# Altium integrated library Linear Technology Power Management System Supervisor, Monitor and Control.IntLib: 1611 symbols (part 48 of 100)
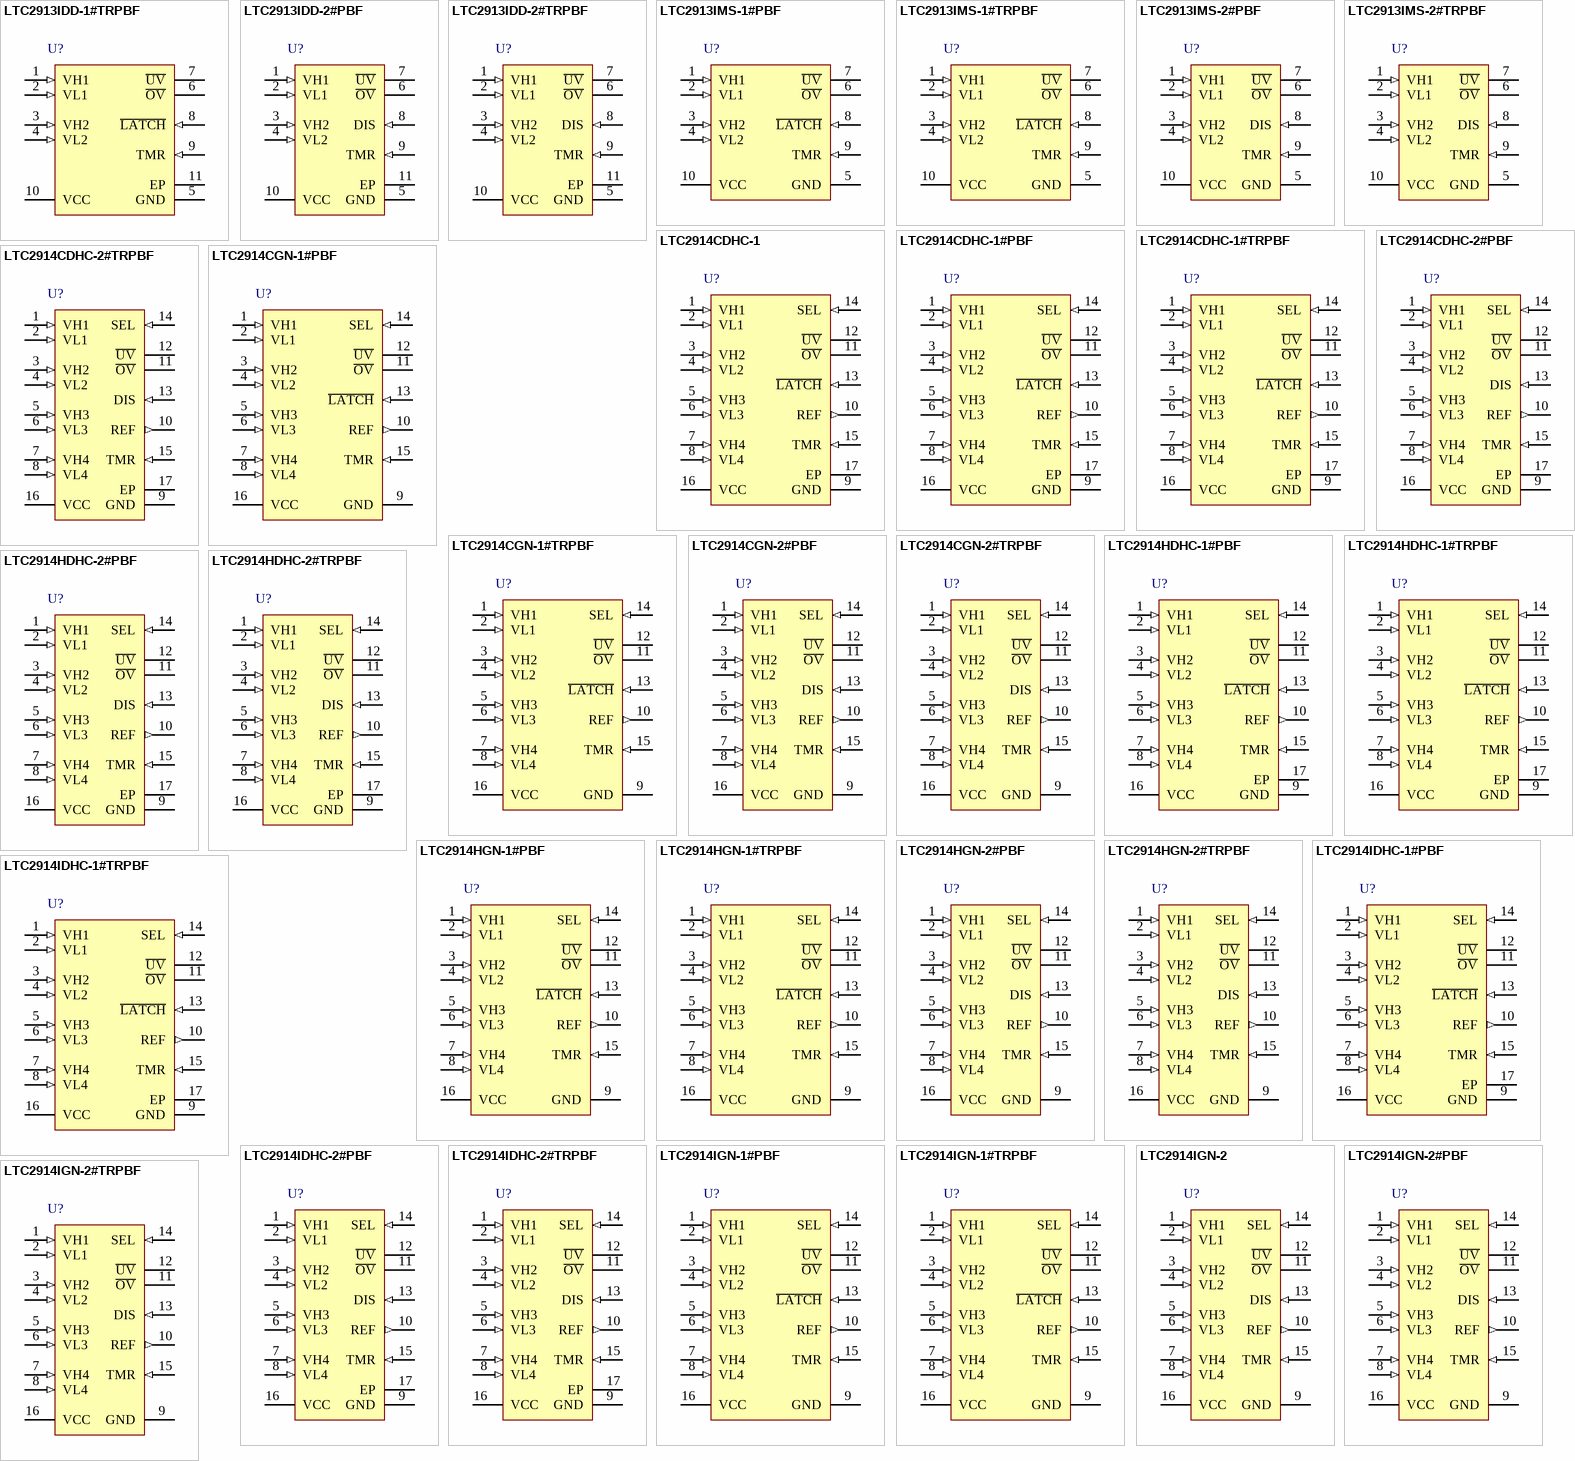
[diagram p92: symbols LTC2913IDD-1#TRPBF to LTC2914IGN-2#TRPBF]

## LTC2914IGN-2#TRPBF
designator U?
Quad UV/OV Positive / Negative Voltage Monitor, 16-pin SOP (GN-16), -40 to 85 degC, Pb-Free, Tape and Reel; Manufacturer: Linear Technology; PartNumber: LTC2914IGN-2#TRPBF; Number of Supplies(#): 4; DatasheetVersion: Rev. B; PackageVersion: Rev. B, 03/2012; PackageReference: GN-16; PackageDescription: 16-Pin Plastic SSOP, Body 4.9 x 3.9 mm, Pitch 0.635 mm; Supplier 1: Digi-Key; Supplier Part Number 1: LTC2914IGN-2#TRPBF-ND; Packing: Tape and Reel; RoHS: TRUE; Mounting Technology: Surface Mount; ComponentLink1Description: Manufacturer URL; ComponentLink1URL: http://www.linear.com/; ComponentLink2Description: Datasheet; ComponentLink2URL: http://cds.linear.com/docs/en/datasheet/2914fb.pdf; ComponentLink3Description: Package Specification; ComponentLink3URL: http://cds.linear.com/docs/en/packaging/05081641_B_GN16.pdf
footprint LT-GN-16_N (SOP, 16-Leads, Body 5x4mm, Pitch 0.635mm, IPC Medium Density)
footprint LT-GN-16_L (SOP, 16-Leads, Body 5x4mm, Pitch 0.635mm, IPC High Density)
footprint LT-GN-16_M (SOP, 16-Leads, Body 5x4mm, Pitch 0.635mm, IPC Low Density)
pins: 1 VH1 (in) "Voltage High Inputs 1 and 2. When the voltage on this pin is below 0.5V, an undervoltage condition is triggered. Tie pin to VCC if unused.", 2 VL1 (in) "Voltage Low Inputs 1 and 2. When the voltage on this pin is above 0.5V, an overvoltage condition is triggered. Tie pin to GND if unused.", 3 VH2 (in) "Voltage High Inputs 1 and 2. When the voltage on this pin is below 0.5V, an undervoltage condition is triggered. Tie pin to VCC if unused.", 4 VL2 (in) "Voltage Low Inputs 1 and 2. When the voltage on this pin is above 0.5V, an overvoltage condition is triggered. Tie pin to GND if unused.", 5 VH3 (in) "Voltage High Inputs 3 and 4. The polarity of the input is selected by the state of the SEL pin (refer to Table 1). When the monitored input is confi gured as a positive voltage, an undervoltage condition is triggered when (See Datasheet)", 6 VL3 (in) "Voltage Low Inputs 3 and 4. The polarity of the input is selected by the state of the SEL pin (refer to Table 1). When the monitored input is confi gured as a positive voltage, an overvoltage condition is triggered when the (See Datasheet)", 7 VH4 (in) "Voltage High Inputs 3 and 4. The polarity of the input is selected by the state of the SEL pin (refer to Table 1). When the monitored input is confi gured as a positive voltage, an undervoltage condition is triggered when (See Datasheet)", 8 VL4 (in) "Voltage Low Inputs 3 and 4. The polarity of the input is selected by the state of the SEL pin (refer to Table 1). When the monitored input is confi gured as a positive voltage, an overvoltage condition is triggered when the (See Datasheet)", 9 GND (power) "Device Ground", 10 REF (out) "Buffered Reference Output. 1V reference used for the offset of negative-monitoring applications. The buffered reference sources and sinks up to 1mA. The reference drives capacitive loads up to 1nF. Larger capacitive loads (See Datasheet)", 11 ~{OV} (oc) "Overvoltage Logic Output. Asserts low when any positive polarity input voltage is above threshold or any negative polarity input voltage is below threshold. Latched low (LTC2914-1). Held low for an adjustable delay time (See Datasheet)", 12 ~{UV} (oc) "Undervoltage Logic Output. Asserts low when any positive polarity input voltage is below threshold or any negative polarity input voltage is above threshold. Held low for an adjustable delay time after all voltage inputs are (See Datasheet)", 13 DIS (in) "Output Disable Input. Disables the O\V\ and U\V\ output pins. When DIS is pulled high, the O\V\ and U\V\ pins are not asserted except during a UVLO condition. Pin has a weak (2uA) internal pull-down to GND. Leave pin open if (See Datasheet)", 14 SEL (in) "Input Polarity Select Three-State Input. Connect to VCC, GND or leave unconnected in open state to select one of three possible input polarity combinations (refer to Table 1).", 15 TMR (in) "Reset Delay Timer. Attach an external capacitor (CTMR) of at least 10pF to GND to set a reset delay time of 9ms/nF. A 1nF capacitor will generate an 8.5ms reset delay time. Tie pin to VCC to bypass timer.", 16 VCC (power) "Supply Voltage. Bypass this pin to GND with a 0.1uF (or greater) capacitor. Operates as a direct supply input for voltages up to 6V. Operates as a shunt regulator for supply voltages greater than 6V and must have a (See Datasheet)"

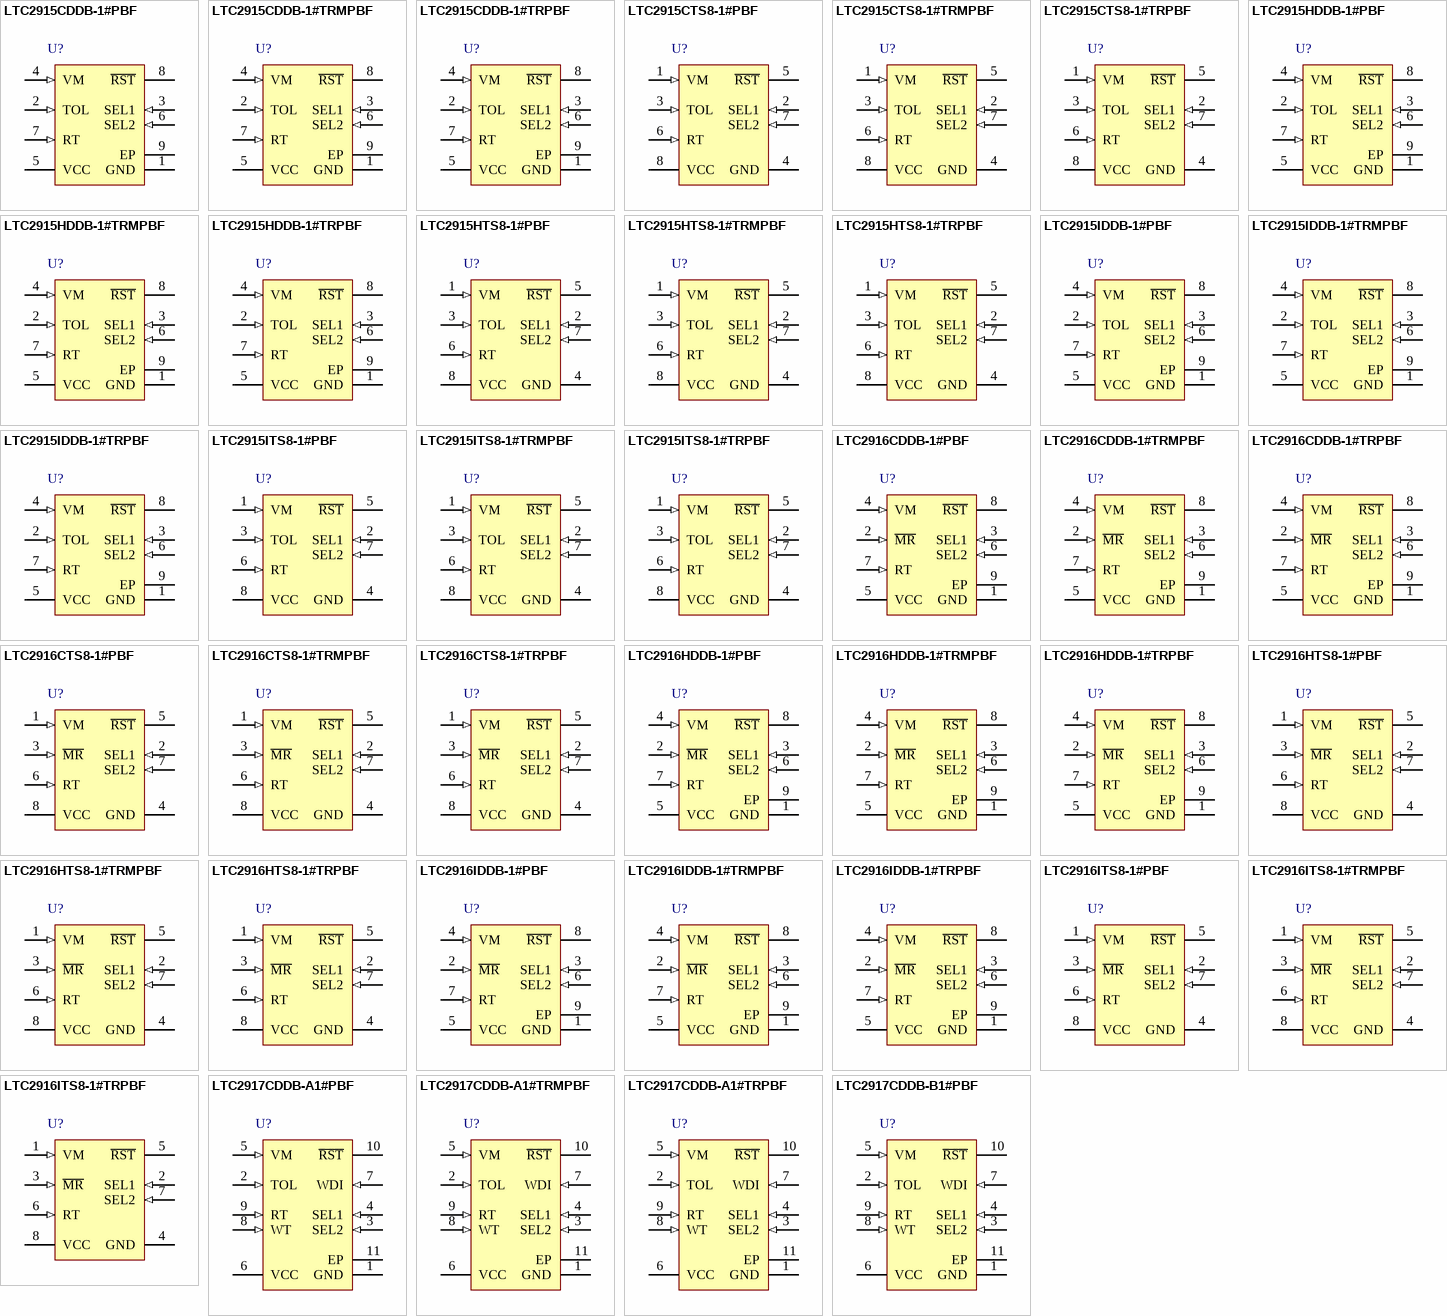
[diagram p23: symbols LTC2915CDDB-1#PBF to LTC2917CDDB-B1#PBF]

## LTC2915CDDB-1#PBF
designator U?
Low Voltage Supervisor with 27 Selectable Thresholds, 8-pin SON (DDB-8), 0 to 70 degC, Pb-Free; Manufacturer: Linear Technology; PartNumber: LTC2915CDDB-1#PBF; Number of Supplies(#): 1; DatasheetVersion: Rev. A; PackageVersion: Rev. B, 06/2010; PackageReference: DDB-8; PackageDescription: 8-Pin Plastic DFN, Body 3 x 2 mm, Pitch 0.5 mm; Supplier 1: Newark; Supplier Part Number 1: 78T3049; RoHS: TRUE; Mounting Technology: Surface Mount; Code_JEDEC: MO-229; ComponentLink1Description: Manufacturer URL; ComponentLink1URL: http://www.linear.com/; ComponentLink2Description: Datasheet; ComponentLink2URL: http://cds.linear.com/docs/en/datasheet/29156fa.pdf; ComponentLink3Description: Package Specification; ComponentLink3URL: http://cds.linear.com/docs/en/packaging/DFN_8_05-08-1702.pdf
footprint LT-DDB-8_V (SON, 8-Leads, Body 3x2mm, Pitch 0.5mm, Thermal Pad 2.2x0.61mm)
pins: 1 GND (power) "Device Ground.", 2 TOL (in) "Three-State Input for Supply Tolerance Selection (-5%, -10% or -15%). Controls the tolerance band at which the VM supply is monitored. Connect to VCC, GND, or leave unconnected in open state. (See Table 2).", 3 SEL1 (in) "Monitor Voltage Select Three-State Inputs. SEL1 and SEL2 control the nominal threshold voltage that VM is set to monitor. Connect to VCC, GND or leave unconnected in open state. (See Table 1).", 4 VM (in) "Voltage Monitor Input to R\S\T\ Comparator. SEL1, SEL2 and TOL inputs select the exact threshold that asserts the R\S\T\ output.", 5 VCC (power) "Power Supply Input. Bypass this pin to ground with a 0.1uF ceramic capacitor. A minimum of 1.5V on VCC ensures that the part is out of under voltage lockout and that the voltage thresholds are accurate. Operates as a direct (See Datasheet)", 6 SEL2 (in) "Monitor Voltage Select Three-State Inputs. SEL1 and SEL2 control the nominal threshold voltage that VM is set to monitor. Connect to VCC, GND or leave unconnected in open state. (See Table 1).", 7 RT (in) "Reset Timeout Control Pin. Attach an external Capacitor (CRT) to GND to set a reset timeout of 9ms/nF. Floating RT generates a reset timeout of approximately 400us. Tie RT to VCC to generate a reset timeout of approximately (See Datasheet)", 8 ~{RST} (oc) "Open Drain R\S\T\ Output. Asserts low when VM is below the threshold selected by SEL1, SEL2 and TOL input pins. Held low for an adjustable timeout after VM input is above threshold.", 9 EP (power) "Exposed Pad may be left open or connected to device ground."

## LTC2915CDDB-1#TRMPBF
designator U?
Low Voltage Supervisor with 27 Selectable Thresholds, 8-pin SON (DDB-8), 0 to 70 degC, Pb-Free, Mini Tape and Reel; Manufacturer: Linear Technology; PartNumber: LTC2915CDDB-1#TRMPBF; Number of Supplies(#): 1; DatasheetVersion: Rev. A; PackageVersion: Rev. B, 06/2010; PackageReference: DDB-8; PackageDescription: 8-Pin Plastic DFN, Body 3 x 2 mm, Pitch 0.5 mm; Supplier 1: Digi-Key; Supplier Part Number 1: LTC2915CDDB-1#TRMPBFTR-ND; Supplier 2: Digi-Key; Supplier Part Number 2: LTC2915CDDB-1#TRMPBFCT-ND; Supplier 3: Digi-Key; Supplier Part Number 3: LTC2915CDDB-1#TRMPBFDKR-ND; Supplier 4: Farnell; Supplier Part Number 4: 1715063; Supplier 5: Farnell; Supplier Part Number 5: 1715063RL; Supplier 6: Newark; Supplier Part Number 6: 56M6945; Packing: Mini Tape and Reel; RoHS: TRUE; Mounting Technology: Surface Mount; Code_JEDEC: MO-229; ComponentLink1Description: Manufacturer URL; ComponentLink1URL: http://www.linear.com/; ComponentLink2Description: Datasheet; ComponentLink2URL: http://cds.linear.com/docs/en/datasheet/29156fa.pdf; ComponentLink3Description: Package Specification; ComponentLink3URL: http://cds.linear.com/docs/en/packaging/DFN_8_05-08-1702.pdf
footprint LT-DDB-8_V (SON, 8-Leads, Body 3x2mm, Pitch 0.5mm, Thermal Pad 2.2x0.61mm)
pins: 1 GND (power) "Device Ground.", 2 TOL (in) "Three-State Input for Supply Tolerance Selection (-5%, -10% or -15%). Controls the tolerance band at which the VM supply is monitored. Connect to VCC, GND, or leave unconnected in open state. (See Table 2).", 3 SEL1 (in) "Monitor Voltage Select Three-State Inputs. SEL1 and SEL2 control the nominal threshold voltage that VM is set to monitor. Connect to VCC, GND or leave unconnected in open state. (See Table 1).", 4 VM (in) "Voltage Monitor Input to R\S\T\ Comparator. SEL1, SEL2 and TOL inputs select the exact threshold that asserts the R\S\T\ output.", 5 VCC (power) "Power Supply Input. Bypass this pin to ground with a 0.1uF ceramic capacitor. A minimum of 1.5V on VCC ensures that the part is out of under voltage lockout and that the voltage thresholds are accurate. Operates as a direct (See Datasheet)", 6 SEL2 (in) "Monitor Voltage Select Three-State Inputs. SEL1 and SEL2 control the nominal threshold voltage that VM is set to monitor. Connect to VCC, GND or leave unconnected in open state. (See Table 1).", 7 RT (in) "Reset Timeout Control Pin. Attach an external Capacitor (CRT) to GND to set a reset timeout of 9ms/nF. Floating RT generates a reset timeout of approximately 400us. Tie RT to VCC to generate a reset timeout of approximately (See Datasheet)", 8 ~{RST} (oc) "Open Drain R\S\T\ Output. Asserts low when VM is below the threshold selected by SEL1, SEL2 and TOL input pins. Held low for an adjustable timeout after VM input is above threshold.", 9 EP (power) "Exposed Pad may be left open or connected to device ground."

## LTC2915CDDB-1#TRPBF
designator U?
Low Voltage Supervisor with 27 Selectable Thresholds, 8-pin SON (DDB-8), 0 to 70 degC, Pb-Free, Tape and Reel; Manufacturer: Linear Technology; PartNumber: LTC2915CDDB-1#TRPBF; Number of Supplies(#): 1; DatasheetVersion: Rev. A; PackageVersion: Rev. B, 06/2010; PackageReference: DDB-8; PackageDescription: 8-Pin Plastic DFN, Body 3 x 2 mm, Pitch 0.5 mm; Supplier 1: Digi-Key; Supplier Part Number 1: LTC2915CDDB-1#TRPBF-ND; Supplier 2: Newark; Supplier Part Number 2: 56M6946; Packing: Tape and Reel; RoHS: TRUE; Mounting Technology: Surface Mount; Code_JEDEC: MO-229; ComponentLink1Description: Manufacturer URL; ComponentLink1URL: http://www.linear.com/; ComponentLink2Description: Datasheet; ComponentLink2URL: http://cds.linear.com/docs/en/datasheet/29156fa.pdf; ComponentLink3Description: Package Specification; ComponentLink3URL: http://cds.linear.com/docs/en/packaging/DFN_8_05-08-1702.pdf
footprint LT-DDB-8_V (SON, 8-Leads, Body 3x2mm, Pitch 0.5mm, Thermal Pad 2.2x0.61mm)
pins: 1 GND (power) "Device Ground.", 2 TOL (in) "Three-State Input for Supply Tolerance Selection (-5%, -10% or -15%). Controls the tolerance band at which the VM supply is monitored. Connect to VCC, GND, or leave unconnected in open state. (See Table 2).", 3 SEL1 (in) "Monitor Voltage Select Three-State Inputs. SEL1 and SEL2 control the nominal threshold voltage that VM is set to monitor. Connect to VCC, GND or leave unconnected in open state. (See Table 1).", 4 VM (in) "Voltage Monitor Input to R\S\T\ Comparator. SEL1, SEL2 and TOL inputs select the exact threshold that asserts the R\S\T\ output.", 5 VCC (power) "Power Supply Input. Bypass this pin to ground with a 0.1uF ceramic capacitor. A minimum of 1.5V on VCC ensures that the part is out of under voltage lockout and that the voltage thresholds are accurate. Operates as a direct (See Datasheet)", 6 SEL2 (in) "Monitor Voltage Select Three-State Inputs. SEL1 and SEL2 control the nominal threshold voltage that VM is set to monitor. Connect to VCC, GND or leave unconnected in open state. (See Table 1).", 7 RT (in) "Reset Timeout Control Pin. Attach an external Capacitor (CRT) to GND to set a reset timeout of 9ms/nF. Floating RT generates a reset timeout of approximately 400us. Tie RT to VCC to generate a reset timeout of approximately (See Datasheet)", 8 ~{RST} (oc) "Open Drain R\S\T\ Output. Asserts low when VM is below the threshold selected by SEL1, SEL2 and TOL input pins. Held low for an adjustable timeout after VM input is above threshold.", 9 EP (power) "Exposed Pad may be left open or connected to device ground."

## LTC2915CTS8-1#PBF
designator U?
Low Voltage Supervisor with 27 Selectable Thresholds, 8-pin SOT23 (TS8-8), 0 to 70 degC, Pb-Free; Manufacturer: Linear Technology; PartNumber: LTC2915CTS8-1#PBF; Number of Supplies(#): 1; DatasheetVersion: Rev. A; PackageVersion: Rev. A, 08/2010; PackageReference: TS8-8; PackageDescription: 8-Pin Plastic TSOT-23, Body 2.9 x 1.63 mm, Pitch 0.65 mm; Supplier 1: Farnell; Supplier Part Number 1: 2308118; Supplier 2: Newark; Supplier Part Number 2: 78T3050; RoHS: TRUE; Mounting Technology: Surface Mount; Code_JEDEC: MO-193; ComponentLink1Description: Manufacturer URL; ComponentLink1URL: http://www.linear.com/; ComponentLink2Description: Datasheet; ComponentLink2URL: http://cds.linear.com/docs/en/datasheet/29156fa.pdf; ComponentLink3Description: Package Specification; ComponentLink3URL: http://cds.linear.com/docs/en/packaging/SOT_8_05-08-1637.pdf
footprint LT-TS8-8-TSOT-23_V (SOT23, 8-Leads, Body 2.9x1.75mm, Pitch 0.65mm)
pins: 1 VM (in) "Voltage Monitor Input to R\S\T\ Comparator. SEL1, SEL2 and TOL inputs select the exact threshold that asserts the R\S\T\ output.", 2 SEL1 (in) "Monitor Voltage Select Three-State Inputs. SEL1 and SEL2 control the nominal threshold voltage that VM is set to monitor. Connect to VCC, GND or leave unconnected in open state. (See Table 1).", 3 TOL (in) "Three-State Input for Supply Tolerance Selection (-5%, -10% or -15%). Controls the tolerance band at which the VM supply is monitored. Connect to VCC, GND, or leave unconnected in open state. (See Table 2).", 4 GND (power) "Device Ground.", 5 ~{RST} (oc) "Open Drain R\S\T\ Output. Asserts low when VM is below the threshold selected by SEL1, SEL2 and TOL input pins. Held low for an adjustable timeout after VM input is above threshold.", 6 RT (in) "Reset Timeout Control Pin. Attach an external Capacitor (CRT) to GND to set a reset timeout of 9ms/nF. Floating RT generates a reset timeout of approximately 400us. Tie RT to VCC to generate a reset timeout of approximately (See Datasheet)", 7 SEL2 (in) "Monitor Voltage Select Three-State Inputs. SEL1 and SEL2 control the nominal threshold voltage that VM is set to monitor. Connect to VCC, GND or leave unconnected in open state. (See Table 1).", 8 VCC (power) "Power Supply Input. Bypass this pin to ground with a 0.1uF ceramic capacitor. A minimum of 1.5V on VCC ensures that the part is out of under voltage lockout and that the voltage thresholds are accurate. Operates as a direct (See Datasheet)"

## LTC2915CTS8-1#TRMPBF
designator U?
Low Voltage Supervisor with 27 Selectable Thresholds, 8-pin SOT23 (TS8-8), 0 to 70 degC, Pb-Free, Mini Tape and Reel; Manufacturer: Linear Technology; PartNumber: LTC2915CTS8-1#TRMPBF; Number of Supplies(#): 1; DatasheetVersion: Rev. A; PackageVersion: Rev. A, 08/2010; PackageReference: TS8-8; PackageDescription: 8-Pin Plastic TSOT-23, Body 2.9 x 1.63 mm, Pitch 0.65 mm; Supplier 1: Digi-Key; Supplier Part Number 1: LTC2915CTS8-1#TRMPBFTR-ND; Supplier 2: Digi-Key; Supplier Part Number 2: LTC2915CTS8-1#TRMPBFCT-ND; Supplier 3: Digi-Key; Supplier Part Number 3: LTC2915CTS8-1#TRMPBFDKR-ND; Supplier 4: Newark; Supplier Part Number 4: 56M6947; Packing: Mini Tape and Reel; RoHS: TRUE; Mounting Technology: Surface Mount; Code_JEDEC: MO-193; ComponentLink1Description: Manufacturer URL; ComponentLink1URL: http://www.linear.com/; ComponentLink2Description: Datasheet; ComponentLink2URL: http://cds.linear.com/docs/en/datasheet/29156fa.pdf; ComponentLink3Description: Package Specification; ComponentLink3URL: http://cds.linear.com/docs/en/packaging/SOT_8_05-08-1637.pdf
footprint LT-TS8-8-TSOT-23_V (SOT23, 8-Leads, Body 2.9x1.75mm, Pitch 0.65mm)
pins: 1 VM (in) "Voltage Monitor Input to R\S\T\ Comparator. SEL1, SEL2 and TOL inputs select the exact threshold that asserts the R\S\T\ output.", 2 SEL1 (in) "Monitor Voltage Select Three-State Inputs. SEL1 and SEL2 control the nominal threshold voltage that VM is set to monitor. Connect to VCC, GND or leave unconnected in open state. (See Table 1).", 3 TOL (in) "Three-State Input for Supply Tolerance Selection (-5%, -10% or -15%). Controls the tolerance band at which the VM supply is monitored. Connect to VCC, GND, or leave unconnected in open state. (See Table 2).", 4 GND (power) "Device Ground.", 5 ~{RST} (oc) "Open Drain R\S\T\ Output. Asserts low when VM is below the threshold selected by SEL1, SEL2 and TOL input pins. Held low for an adjustable timeout after VM input is above threshold.", 6 RT (in) "Reset Timeout Control Pin. Attach an external Capacitor (CRT) to GND to set a reset timeout of 9ms/nF. Floating RT generates a reset timeout of approximately 400us. Tie RT to VCC to generate a reset timeout of approximately (See Datasheet)", 7 SEL2 (in) "Monitor Voltage Select Three-State Inputs. SEL1 and SEL2 control the nominal threshold voltage that VM is set to monitor. Connect to VCC, GND or leave unconnected in open state. (See Table 1).", 8 VCC (power) "Power Supply Input. Bypass this pin to ground with a 0.1uF ceramic capacitor. A minimum of 1.5V on VCC ensures that the part is out of under voltage lockout and that the voltage thresholds are accurate. Operates as a direct (See Datasheet)"

## LTC2915CTS8-1#TRPBF
designator U?
Low Voltage Supervisor with 27 Selectable Thresholds, 8-pin SOT23 (TS8-8), 0 to 70 degC, Pb-Free, Tape and Reel; Manufacturer: Linear Technology; PartNumber: LTC2915CTS8-1#TRPBF; Number of Supplies(#): 1; DatasheetVersion: Rev. A; PackageVersion: Rev. A, 08/2010; PackageReference: TS8-8; PackageDescription: 8-Pin Plastic TSOT-23, Body 2.9 x 1.63 mm, Pitch 0.65 mm; Supplier 1: Digi-Key; Supplier Part Number 1: LTC2915CTS8-1#TRPBF-ND; Supplier 2: Newark; Supplier Part Number 2: 56M6948; Packing: Tape and Reel; RoHS: TRUE; Mounting Technology: Surface Mount; Code_JEDEC: MO-193; ComponentLink1Description: Manufacturer URL; ComponentLink1URL: http://www.linear.com/; ComponentLink2Description: Datasheet; ComponentLink2URL: http://cds.linear.com/docs/en/datasheet/29156fa.pdf; ComponentLink3Description: Package Specification; ComponentLink3URL: http://cds.linear.com/docs/en/packaging/SOT_8_05-08-1637.pdf
footprint LT-TS8-8-TSOT-23_V (SOT23, 8-Leads, Body 2.9x1.75mm, Pitch 0.65mm)
pins: 1 VM (in) "Voltage Monitor Input to R\S\T\ Comparator. SEL1, SEL2 and TOL inputs select the exact threshold that asserts the R\S\T\ output.", 2 SEL1 (in) "Monitor Voltage Select Three-State Inputs. SEL1 and SEL2 control the nominal threshold voltage that VM is set to monitor. Connect to VCC, GND or leave unconnected in open state. (See Table 1).", 3 TOL (in) "Three-State Input for Supply Tolerance Selection (-5%, -10% or -15%). Controls the tolerance band at which the VM supply is monitored. Connect to VCC, GND, or leave unconnected in open state. (See Table 2).", 4 GND (power) "Device Ground.", 5 ~{RST} (oc) "Open Drain R\S\T\ Output. Asserts low when VM is below the threshold selected by SEL1, SEL2 and TOL input pins. Held low for an adjustable timeout after VM input is above threshold.", 6 RT (in) "Reset Timeout Control Pin. Attach an external Capacitor (CRT) to GND to set a reset timeout of 9ms/nF. Floating RT generates a reset timeout of approximately 400us. Tie RT to VCC to generate a reset timeout of approximately (See Datasheet)", 7 SEL2 (in) "Monitor Voltage Select Three-State Inputs. SEL1 and SEL2 control the nominal threshold voltage that VM is set to monitor. Connect to VCC, GND or leave unconnected in open state. (See Table 1).", 8 VCC (power) "Power Supply Input. Bypass this pin to ground with a 0.1uF ceramic capacitor. A minimum of 1.5V on VCC ensures that the part is out of under voltage lockout and that the voltage thresholds are accurate. Operates as a direct (See Datasheet)"

## LTC2915HDDB-1#PBF
designator U?
Low Voltage Supervisor with 27 Selectable Thresholds, 8-pin SON (DDB-8), -40 to 125 degC, Pb-Free; Manufacturer: Linear Technology; PartNumber: LTC2915HDDB-1#PBF; Number of Supplies(#): 1; DatasheetVersion: Rev. A; PackageVersion: Rev. B, 06/2010; PackageReference: DDB-8; PackageDescription: 8-Pin Plastic DFN, Body 3 x 2 mm, Pitch 0.5 mm; Supplier 1: Newark; Supplier Part Number 1: 78T3051; RoHS: TRUE; Mounting Technology: Surface Mount; Code_JEDEC: MO-229; ComponentLink1Description: Manufacturer URL; ComponentLink1URL: http://www.linear.com/; ComponentLink2Description: Datasheet; ComponentLink2URL: http://cds.linear.com/docs/en/datasheet/29156fa.pdf; ComponentLink3Description: Package Specification; ComponentLink3URL: http://cds.linear.com/docs/en/packaging/DFN_8_05-08-1702.pdf
footprint LT-DDB-8_V (SON, 8-Leads, Body 3x2mm, Pitch 0.5mm, Thermal Pad 2.2x0.61mm)
pins: 1 GND (power) "Device Ground.", 2 TOL (in) "Three-State Input for Supply Tolerance Selection (-5%, -10% or -15%). Controls the tolerance band at which the VM supply is monitored. Connect to VCC, GND, or leave unconnected in open state. (See Table 2).", 3 SEL1 (in) "Monitor Voltage Select Three-State Inputs. SEL1 and SEL2 control the nominal threshold voltage that VM is set to monitor. Connect to VCC, GND or leave unconnected in open state. (See Table 1).", 4 VM (in) "Voltage Monitor Input to R\S\T\ Comparator. SEL1, SEL2 and TOL inputs select the exact threshold that asserts the R\S\T\ output.", 5 VCC (power) "Power Supply Input. Bypass this pin to ground with a 0.1uF ceramic capacitor. A minimum of 1.5V on VCC ensures that the part is out of under voltage lockout and that the voltage thresholds are accurate. Operates as a direct (See Datasheet)", 6 SEL2 (in) "Monitor Voltage Select Three-State Inputs. SEL1 and SEL2 control the nominal threshold voltage that VM is set to monitor. Connect to VCC, GND or leave unconnected in open state. (See Table 1).", 7 RT (in) "Reset Timeout Control Pin. Attach an external Capacitor (CRT) to GND to set a reset timeout of 9ms/nF. Floating RT generates a reset timeout of approximately 400us. Tie RT to VCC to generate a reset timeout of approximately (See Datasheet)", 8 ~{RST} (oc) "Open Drain R\S\T\ Output. Asserts low when VM is below the threshold selected by SEL1, SEL2 and TOL input pins. Held low for an adjustable timeout after VM input is above threshold.", 9 EP (power) "Exposed Pad may be left open or connected to device ground."

## LTC2915HDDB-1#TRMPBF
designator U?
Low Voltage Supervisor with 27 Selectable Thresholds, 8-pin SON (DDB-8), -40 to 125 degC, Pb-Free, Mini Tape and Reel; Manufacturer: Linear Technology; PartNumber: LTC2915HDDB-1#TRMPBF; Number of Supplies(#): 1; DatasheetVersion: Rev. A; PackageVersion: Rev. B, 06/2010; PackageReference: DDB-8; PackageDescription: 8-Pin Plastic DFN, Body 3 x 2 mm, Pitch 0.5 mm; Supplier 1: Digi-Key; Supplier Part Number 1: LTC2915HDDB-1#TRMPBFTR-ND; Supplier 2: Digi-Key; Supplier Part Number 2: LTC2915HDDB-1#TRMPBFCT-ND; Supplier 3: Digi-Key; Supplier Part Number 3: LTC2915HDDB-1#TRMPBFDKR-ND; Supplier 4: Farnell; Supplier Part Number 4: 1715064; Supplier 5: Newark; Supplier Part Number 5: 56M6949; Packing: Mini Tape and Reel; RoHS: TRUE; Mounting Technology: Surface Mount; Code_JEDEC: MO-229; ComponentLink1Description: Manufacturer URL; ComponentLink1URL: http://www.linear.com/; ComponentLink2Description: Datasheet; ComponentLink2URL: http://cds.linear.com/docs/en/datasheet/29156fa.pdf; ComponentLink3Description: Package Specification; ComponentLink3URL: http://cds.linear.com/docs/en/packaging/DFN_8_05-08-1702.pdf
footprint LT-DDB-8_V (SON, 8-Leads, Body 3x2mm, Pitch 0.5mm, Thermal Pad 2.2x0.61mm)
pins: 1 GND (power) "Device Ground.", 2 TOL (in) "Three-State Input for Supply Tolerance Selection (-5%, -10% or -15%). Controls the tolerance band at which the VM supply is monitored. Connect to VCC, GND, or leave unconnected in open state. (See Table 2).", 3 SEL1 (in) "Monitor Voltage Select Three-State Inputs. SEL1 and SEL2 control the nominal threshold voltage that VM is set to monitor. Connect to VCC, GND or leave unconnected in open state. (See Table 1).", 4 VM (in) "Voltage Monitor Input to R\S\T\ Comparator. SEL1, SEL2 and TOL inputs select the exact threshold that asserts the R\S\T\ output.", 5 VCC (power) "Power Supply Input. Bypass this pin to ground with a 0.1uF ceramic capacitor. A minimum of 1.5V on VCC ensures that the part is out of under voltage lockout and that the voltage thresholds are accurate. Operates as a direct (See Datasheet)", 6 SEL2 (in) "Monitor Voltage Select Three-State Inputs. SEL1 and SEL2 control the nominal threshold voltage that VM is set to monitor. Connect to VCC, GND or leave unconnected in open state. (See Table 1).", 7 RT (in) "Reset Timeout Control Pin. Attach an external Capacitor (CRT) to GND to set a reset timeout of 9ms/nF. Floating RT generates a reset timeout of approximately 400us. Tie RT to VCC to generate a reset timeout of approximately (See Datasheet)", 8 ~{RST} (oc) "Open Drain R\S\T\ Output. Asserts low when VM is below the threshold selected by SEL1, SEL2 and TOL input pins. Held low for an adjustable timeout after VM input is above threshold.", 9 EP (power) "Exposed Pad may be left open or connected to device ground."

## LTC2915HDDB-1#TRPBF
designator U?
Low Voltage Supervisor with 27 Selectable Thresholds, 8-pin SON (DDB-8), -40 to 125 degC, Pb-Free, Tape and Reel; Manufacturer: Linear Technology; PartNumber: LTC2915HDDB-1#TRPBF; Number of Supplies(#): 1; DatasheetVersion: Rev. A; PackageVersion: Rev. B, 06/2010; PackageReference: DDB-8; PackageDescription: 8-Pin Plastic DFN, Body 3 x 2 mm, Pitch 0.5 mm; Supplier 1: Digi-Key; Supplier Part Number 1: LTC2915HDDB-1#TRPBF-ND; Packing: Tape and Reel; RoHS: TRUE; Mounting Technology: Surface Mount; Code_JEDEC: MO-229; ComponentLink1Description: Manufacturer URL; ComponentLink1URL: http://www.linear.com/; ComponentLink2Description: Datasheet; ComponentLink2URL: http://cds.linear.com/docs/en/datasheet/29156fa.pdf; ComponentLink3Description: Package Specification; ComponentLink3URL: http://cds.linear.com/docs/en/packaging/DFN_8_05-08-1702.pdf
footprint LT-DDB-8_V (SON, 8-Leads, Body 3x2mm, Pitch 0.5mm, Thermal Pad 2.2x0.61mm)
pins: 1 GND (power) "Device Ground.", 2 TOL (in) "Three-State Input for Supply Tolerance Selection (-5%, -10% or -15%). Controls the tolerance band at which the VM supply is monitored. Connect to VCC, GND, or leave unconnected in open state. (See Table 2).", 3 SEL1 (in) "Monitor Voltage Select Three-State Inputs. SEL1 and SEL2 control the nominal threshold voltage that VM is set to monitor. Connect to VCC, GND or leave unconnected in open state. (See Table 1).", 4 VM (in) "Voltage Monitor Input to R\S\T\ Comparator. SEL1, SEL2 and TOL inputs select the exact threshold that asserts the R\S\T\ output.", 5 VCC (power) "Power Supply Input. Bypass this pin to ground with a 0.1uF ceramic capacitor. A minimum of 1.5V on VCC ensures that the part is out of under voltage lockout and that the voltage thresholds are accurate. Operates as a direct (See Datasheet)", 6 SEL2 (in) "Monitor Voltage Select Three-State Inputs. SEL1 and SEL2 control the nominal threshold voltage that VM is set to monitor. Connect to VCC, GND or leave unconnected in open state. (See Table 1).", 7 RT (in) "Reset Timeout Control Pin. Attach an external Capacitor (CRT) to GND to set a reset timeout of 9ms/nF. Floating RT generates a reset timeout of approximately 400us. Tie RT to VCC to generate a reset timeout of approximately (See Datasheet)", 8 ~{RST} (oc) "Open Drain R\S\T\ Output. Asserts low when VM is below the threshold selected by SEL1, SEL2 and TOL input pins. Held low for an adjustable timeout after VM input is above threshold.", 9 EP (power) "Exposed Pad may be left open or connected to device ground."

## LTC2915HTS8-1#PBF
designator U?
Low Voltage Supervisor with 27 Selectable Thresholds, 8-pin SOT23 (TS8-8), -40 to 125 degC, Pb-Free; Manufacturer: Linear Technology; PartNumber: LTC2915HTS8-1#PBF; Number of Supplies(#): 1; DatasheetVersion: Rev. A; PackageVersion: Rev. A, 08/2010; PackageReference: TS8-8; PackageDescription: 8-Pin Plastic TSOT-23, Body 2.9 x 1.63 mm, Pitch 0.65 mm; Supplier 1: Farnell; Supplier Part Number 1: 2308119; Supplier 2: Newark; Supplier Part Number 2: 78T3052; RoHS: TRUE; Mounting Technology: Surface Mount; Code_JEDEC: MO-193; ComponentLink1Description: Manufacturer URL; ComponentLink1URL: http://www.linear.com/; ComponentLink2Description: Datasheet; ComponentLink2URL: http://cds.linear.com/docs/en/datasheet/29156fa.pdf; ComponentLink3Description: Package Specification; ComponentLink3URL: http://cds.linear.com/docs/en/packaging/SOT_8_05-08-1637.pdf
footprint LT-TS8-8-TSOT-23_V (SOT23, 8-Leads, Body 2.9x1.75mm, Pitch 0.65mm)
pins: 1 VM (in) "Voltage Monitor Input to R\S\T\ Comparator. SEL1, SEL2 and TOL inputs select the exact threshold that asserts the R\S\T\ output.", 2 SEL1 (in) "Monitor Voltage Select Three-State Inputs. SEL1 and SEL2 control the nominal threshold voltage that VM is set to monitor. Connect to VCC, GND or leave unconnected in open state. (See Table 1).", 3 TOL (in) "Three-State Input for Supply Tolerance Selection (-5%, -10% or -15%). Controls the tolerance band at which the VM supply is monitored. Connect to VCC, GND, or leave unconnected in open state. (See Table 2).", 4 GND (power) "Device Ground.", 5 ~{RST} (oc) "Open Drain R\S\T\ Output. Asserts low when VM is below the threshold selected by SEL1, SEL2 and TOL input pins. Held low for an adjustable timeout after VM input is above threshold.", 6 RT (in) "Reset Timeout Control Pin. Attach an external Capacitor (CRT) to GND to set a reset timeout of 9ms/nF. Floating RT generates a reset timeout of approximately 400us. Tie RT to VCC to generate a reset timeout of approximately (See Datasheet)", 7 SEL2 (in) "Monitor Voltage Select Three-State Inputs. SEL1 and SEL2 control the nominal threshold voltage that VM is set to monitor. Connect to VCC, GND or leave unconnected in open state. (See Table 1).", 8 VCC (power) "Power Supply Input. Bypass this pin to ground with a 0.1uF ceramic capacitor. A minimum of 1.5V on VCC ensures that the part is out of under voltage lockout and that the voltage thresholds are accurate. Operates as a direct (See Datasheet)"

## LTC2915HTS8-1#TRMPBF
designator U?
Low Voltage Supervisor with 27 Selectable Thresholds, 8-pin SOT23 (TS8-8), -40 to 125 degC, Pb-Free, Mini Tape and Reel; Manufacturer: Linear Technology; PartNumber: LTC2915HTS8-1#TRMPBF; Number of Supplies(#): 1; DatasheetVersion: Rev. A; PackageVersion: Rev. A, 08/2010; PackageReference: TS8-8; PackageDescription: 8-Pin Plastic TSOT-23, Body 2.9 x 1.63 mm, Pitch 0.65 mm; Supplier 1: Digi-Key; Supplier Part Number 1: LTC2915HTS8-1#TRMPBFTR-ND; Supplier 2: Digi-Key; Supplier Part Number 2: LTC2915HTS8-1#TRMPBFCT-ND; Supplier 3: Digi-Key; Supplier Part Number 3: LTC2915HTS8-1#TRMPBFDKR-ND; Packing: Mini Tape and Reel; RoHS: TRUE; Mounting Technology: Surface Mount; Code_JEDEC: MO-193; ComponentLink1Description: Manufacturer URL; ComponentLink1URL: http://www.linear.com/; ComponentLink2Description: Datasheet; ComponentLink2URL: http://cds.linear.com/docs/en/datasheet/29156fa.pdf; ComponentLink3Description: Package Specification; ComponentLink3URL: http://cds.linear.com/docs/en/packaging/SOT_8_05-08-1637.pdf
footprint LT-TS8-8-TSOT-23_V (SOT23, 8-Leads, Body 2.9x1.75mm, Pitch 0.65mm)
pins: 1 VM (in) "Voltage Monitor Input to R\S\T\ Comparator. SEL1, SEL2 and TOL inputs select the exact threshold that asserts the R\S\T\ output.", 2 SEL1 (in) "Monitor Voltage Select Three-State Inputs. SEL1 and SEL2 control the nominal threshold voltage that VM is set to monitor. Connect to VCC, GND or leave unconnected in open state. (See Table 1).", 3 TOL (in) "Three-State Input for Supply Tolerance Selection (-5%, -10% or -15%). Controls the tolerance band at which the VM supply is monitored. Connect to VCC, GND, or leave unconnected in open state. (See Table 2).", 4 GND (power) "Device Ground.", 5 ~{RST} (oc) "Open Drain R\S\T\ Output. Asserts low when VM is below the threshold selected by SEL1, SEL2 and TOL input pins. Held low for an adjustable timeout after VM input is above threshold.", 6 RT (in) "Reset Timeout Control Pin. Attach an external Capacitor (CRT) to GND to set a reset timeout of 9ms/nF. Floating RT generates a reset timeout of approximately 400us. Tie RT to VCC to generate a reset timeout of approximately (See Datasheet)", 7 SEL2 (in) "Monitor Voltage Select Three-State Inputs. SEL1 and SEL2 control the nominal threshold voltage that VM is set to monitor. Connect to VCC, GND or leave unconnected in open state. (See Table 1).", 8 VCC (power) "Power Supply Input. Bypass this pin to ground with a 0.1uF ceramic capacitor. A minimum of 1.5V on VCC ensures that the part is out of under voltage lockout and that the voltage thresholds are accurate. Operates as a direct (See Datasheet)"

## LTC2915HTS8-1#TRPBF
designator U?
Low Voltage Supervisor with 27 Selectable Thresholds, 8-pin SOT23 (TS8-8), -40 to 125 degC, Pb-Free, Tape and Reel; Manufacturer: Linear Technology; PartNumber: LTC2915HTS8-1#TRPBF; Number of Supplies(#): 1; DatasheetVersion: Rev. A; PackageVersion: Rev. A, 08/2010; PackageReference: TS8-8; PackageDescription: 8-Pin Plastic TSOT-23, Body 2.9 x 1.63 mm, Pitch 0.65 mm; Supplier 1: Digi-Key; Supplier Part Number 1: LTC2915HTS8-1#TRPBF-ND; Packing: Tape and Reel; RoHS: TRUE; Mounting Technology: Surface Mount; Code_JEDEC: MO-193; ComponentLink1Description: Manufacturer URL; ComponentLink1URL: http://www.linear.com/; ComponentLink2Description: Datasheet; ComponentLink2URL: http://cds.linear.com/docs/en/datasheet/29156fa.pdf; ComponentLink3Description: Package Specification; ComponentLink3URL: http://cds.linear.com/docs/en/packaging/SOT_8_05-08-1637.pdf
footprint LT-TS8-8-TSOT-23_V (SOT23, 8-Leads, Body 2.9x1.75mm, Pitch 0.65mm)
pins: 1 VM (in) "Voltage Monitor Input to R\S\T\ Comparator. SEL1, SEL2 and TOL inputs select the exact threshold that asserts the R\S\T\ output.", 2 SEL1 (in) "Monitor Voltage Select Three-State Inputs. SEL1 and SEL2 control the nominal threshold voltage that VM is set to monitor. Connect to VCC, GND or leave unconnected in open state. (See Table 1).", 3 TOL (in) "Three-State Input for Supply Tolerance Selection (-5%, -10% or -15%). Controls the tolerance band at which the VM supply is monitored. Connect to VCC, GND, or leave unconnected in open state. (See Table 2).", 4 GND (power) "Device Ground.", 5 ~{RST} (oc) "Open Drain R\S\T\ Output. Asserts low when VM is below the threshold selected by SEL1, SEL2 and TOL input pins. Held low for an adjustable timeout after VM input is above threshold.", 6 RT (in) "Reset Timeout Control Pin. Attach an external Capacitor (CRT) to GND to set a reset timeout of 9ms/nF. Floating RT generates a reset timeout of approximately 400us. Tie RT to VCC to generate a reset timeout of approximately (See Datasheet)", 7 SEL2 (in) "Monitor Voltage Select Three-State Inputs. SEL1 and SEL2 control the nominal threshold voltage that VM is set to monitor. Connect to VCC, GND or leave unconnected in open state. (See Table 1).", 8 VCC (power) "Power Supply Input. Bypass this pin to ground with a 0.1uF ceramic capacitor. A minimum of 1.5V on VCC ensures that the part is out of under voltage lockout and that the voltage thresholds are accurate. Operates as a direct (See Datasheet)"

## LTC2915IDDB-1#PBF
designator U?
Low Voltage Supervisor with 27 Selectable Thresholds, 8-pin SON (DDB-8), -40 to 85 degC, Pb-Free; Manufacturer: Linear Technology; PartNumber: LTC2915IDDB-1#PBF; Number of Supplies(#): 1; DatasheetVersion: Rev. A; PackageVersion: Rev. B, 06/2010; PackageReference: DDB-8; PackageDescription: 8-Pin Plastic DFN, Body 3 x 2 mm, Pitch 0.5 mm; Supplier 1: Newark; Supplier Part Number 1: 78T3054; RoHS: TRUE; Mounting Technology: Surface Mount; Code_JEDEC: MO-229; ComponentLink1Description: Manufacturer URL; ComponentLink1URL: http://www.linear.com/; ComponentLink2Description: Datasheet; ComponentLink2URL: http://cds.linear.com/docs/en/datasheet/29156fa.pdf; ComponentLink3Description: Package Specification; ComponentLink3URL: http://cds.linear.com/docs/en/packaging/DFN_8_05-08-1702.pdf
footprint LT-DDB-8_V (SON, 8-Leads, Body 3x2mm, Pitch 0.5mm, Thermal Pad 2.2x0.61mm)
pins: 1 GND (power) "Device Ground.", 2 TOL (in) "Three-State Input for Supply Tolerance Selection (-5%, -10% or -15%). Controls the tolerance band at which the VM supply is monitored. Connect to VCC, GND, or leave unconnected in open state. (See Table 2).", 3 SEL1 (in) "Monitor Voltage Select Three-State Inputs. SEL1 and SEL2 control the nominal threshold voltage that VM is set to monitor. Connect to VCC, GND or leave unconnected in open state. (See Table 1).", 4 VM (in) "Voltage Monitor Input to R\S\T\ Comparator. SEL1, SEL2 and TOL inputs select the exact threshold that asserts the R\S\T\ output.", 5 VCC (power) "Power Supply Input. Bypass this pin to ground with a 0.1uF ceramic capacitor. A minimum of 1.5V on VCC ensures that the part is out of under voltage lockout and that the voltage thresholds are accurate. Operates as a direct (See Datasheet)", 6 SEL2 (in) "Monitor Voltage Select Three-State Inputs. SEL1 and SEL2 control the nominal threshold voltage that VM is set to monitor. Connect to VCC, GND or leave unconnected in open state. (See Table 1).", 7 RT (in) "Reset Timeout Control Pin. Attach an external Capacitor (CRT) to GND to set a reset timeout of 9ms/nF. Floating RT generates a reset timeout of approximately 400us. Tie RT to VCC to generate a reset timeout of approximately (See Datasheet)", 8 ~{RST} (oc) "Open Drain R\S\T\ Output. Asserts low when VM is below the threshold selected by SEL1, SEL2 and TOL input pins. Held low for an adjustable timeout after VM input is above threshold.", 9 EP (power) "Exposed Pad may be left open or connected to device ground."

## LTC2915IDDB-1#TRMPBF
designator U?
Low Voltage Supervisor with 27 Selectable Thresholds, 8-pin SON (DDB-8), -40 to 85 degC, Pb-Free, Mini Tape and Reel; Manufacturer: Linear Technology; PartNumber: LTC2915IDDB-1#TRMPBF; Number of Supplies(#): 1; DatasheetVersion: Rev. A; PackageVersion: Rev. B, 06/2010; PackageReference: DDB-8; PackageDescription: 8-Pin Plastic DFN, Body 3 x 2 mm, Pitch 0.5 mm; Supplier 1: Digi-Key; Supplier Part Number 1: LTC2915IDDB-1#TRMPBFTR-ND; Supplier 2: Digi-Key; Supplier Part Number 2: LTC2915IDDB-1#TRMPBFCT-ND; Supplier 3: Digi-Key; Supplier Part Number 3: LTC2915IDDB-1#TRMPBFDKR-ND; Supplier 4: Farnell; Supplier Part Number 4: 1715065; Supplier 5: Newark; Supplier Part Number 5: 56M6953; Packing: Mini Tape and Reel; RoHS: TRUE; Mounting Technology: Surface Mount; Code_JEDEC: MO-229; ComponentLink1Description: Manufacturer URL; ComponentLink1URL: http://www.linear.com/; ComponentLink2Description: Datasheet; ComponentLink2URL: http://cds.linear.com/docs/en/datasheet/29156fa.pdf; ComponentLink3Description: Package Specification; ComponentLink3URL: http://cds.linear.com/docs/en/packaging/DFN_8_05-08-1702.pdf
footprint LT-DDB-8_V (SON, 8-Leads, Body 3x2mm, Pitch 0.5mm, Thermal Pad 2.2x0.61mm)
pins: 1 GND (power) "Device Ground.", 2 TOL (in) "Three-State Input for Supply Tolerance Selection (-5%, -10% or -15%). Controls the tolerance band at which the VM supply is monitored. Connect to VCC, GND, or leave unconnected in open state. (See Table 2).", 3 SEL1 (in) "Monitor Voltage Select Three-State Inputs. SEL1 and SEL2 control the nominal threshold voltage that VM is set to monitor. Connect to VCC, GND or leave unconnected in open state. (See Table 1).", 4 VM (in) "Voltage Monitor Input to R\S\T\ Comparator. SEL1, SEL2 and TOL inputs select the exact threshold that asserts the R\S\T\ output.", 5 VCC (power) "Power Supply Input. Bypass this pin to ground with a 0.1uF ceramic capacitor. A minimum of 1.5V on VCC ensures that the part is out of under voltage lockout and that the voltage thresholds are accurate. Operates as a direct (See Datasheet)", 6 SEL2 (in) "Monitor Voltage Select Three-State Inputs. SEL1 and SEL2 control the nominal threshold voltage that VM is set to monitor. Connect to VCC, GND or leave unconnected in open state. (See Table 1).", 7 RT (in) "Reset Timeout Control Pin. Attach an external Capacitor (CRT) to GND to set a reset timeout of 9ms/nF. Floating RT generates a reset timeout of approximately 400us. Tie RT to VCC to generate a reset timeout of approximately (See Datasheet)", 8 ~{RST} (oc) "Open Drain R\S\T\ Output. Asserts low when VM is below the threshold selected by SEL1, SEL2 and TOL input pins. Held low for an adjustable timeout after VM input is above threshold.", 9 EP (power) "Exposed Pad may be left open or connected to device ground."

## LTC2915IDDB-1#TRPBF
designator U?
Low Voltage Supervisor with 27 Selectable Thresholds, 8-pin SON (DDB-8), -40 to 85 degC, Pb-Free, Tape and Reel; Manufacturer: Linear Technology; PartNumber: LTC2915IDDB-1#TRPBF; Number of Supplies(#): 1; DatasheetVersion: Rev. A; PackageVersion: Rev. B, 06/2010; PackageReference: DDB-8; PackageDescription: 8-Pin Plastic DFN, Body 3 x 2 mm, Pitch 0.5 mm; Supplier 1: Digi-Key; Supplier Part Number 1: LTC2915IDDB-1#TRPBF-ND; Supplier 2: Newark; Supplier Part Number 2: 56M6954; Packing: Tape and Reel; RoHS: TRUE; Mounting Technology: Surface Mount; Code_JEDEC: MO-229; ComponentLink1Description: Manufacturer URL; ComponentLink1URL: http://www.linear.com/; ComponentLink2Description: Datasheet; ComponentLink2URL: http://cds.linear.com/docs/en/datasheet/29156fa.pdf; ComponentLink3Description: Package Specification; ComponentLink3URL: http://cds.linear.com/docs/en/packaging/DFN_8_05-08-1702.pdf
footprint LT-DDB-8_V (SON, 8-Leads, Body 3x2mm, Pitch 0.5mm, Thermal Pad 2.2x0.61mm)
pins: 1 GND (power) "Device Ground.", 2 TOL (in) "Three-State Input for Supply Tolerance Selection (-5%, -10% or -15%). Controls the tolerance band at which the VM supply is monitored. Connect to VCC, GND, or leave unconnected in open state. (See Table 2).", 3 SEL1 (in) "Monitor Voltage Select Three-State Inputs. SEL1 and SEL2 control the nominal threshold voltage that VM is set to monitor. Connect to VCC, GND or leave unconnected in open state. (See Table 1).", 4 VM (in) "Voltage Monitor Input to R\S\T\ Comparator. SEL1, SEL2 and TOL inputs select the exact threshold that asserts the R\S\T\ output.", 5 VCC (power) "Power Supply Input. Bypass this pin to ground with a 0.1uF ceramic capacitor. A minimum of 1.5V on VCC ensures that the part is out of under voltage lockout and that the voltage thresholds are accurate. Operates as a direct (See Datasheet)", 6 SEL2 (in) "Monitor Voltage Select Three-State Inputs. SEL1 and SEL2 control the nominal threshold voltage that VM is set to monitor. Connect to VCC, GND or leave unconnected in open state. (See Table 1).", 7 RT (in) "Reset Timeout Control Pin. Attach an external Capacitor (CRT) to GND to set a reset timeout of 9ms/nF. Floating RT generates a reset timeout of approximately 400us. Tie RT to VCC to generate a reset timeout of approximately (See Datasheet)", 8 ~{RST} (oc) "Open Drain R\S\T\ Output. Asserts low when VM is below the threshold selected by SEL1, SEL2 and TOL input pins. Held low for an adjustable timeout after VM input is above threshold.", 9 EP (power) "Exposed Pad may be left open or connected to device ground."

## LTC2915ITS8-1#PBF
designator U?
Low Voltage Supervisor with 27 Selectable Thresholds, 8-pin SOT23 (TS8-8), -40 to 85 degC, Pb-Free; Manufacturer: Linear Technology; PartNumber: LTC2915ITS8-1#PBF; Number of Supplies(#): 1; DatasheetVersion: Rev. A; PackageVersion: Rev. A, 08/2010; PackageReference: TS8-8; PackageDescription: 8-Pin Plastic TSOT-23, Body 2.9 x 1.63 mm, Pitch 0.65 mm; Supplier 1: Farnell; Supplier Part Number 1: 2308120; Supplier 2: Newark; Supplier Part Number 2: 78T3055; RoHS: TRUE; Mounting Technology: Surface Mount; Code_JEDEC: MO-193; ComponentLink1Description: Manufacturer URL; ComponentLink1URL: http://www.linear.com/; ComponentLink2Description: Datasheet; ComponentLink2URL: http://cds.linear.com/docs/en/datasheet/29156fa.pdf; ComponentLink3Description: Package Specification; ComponentLink3URL: http://cds.linear.com/docs/en/packaging/SOT_8_05-08-1637.pdf
footprint LT-TS8-8-TSOT-23_V (SOT23, 8-Leads, Body 2.9x1.75mm, Pitch 0.65mm)
pins: 1 VM (in) "Voltage Monitor Input to R\S\T\ Comparator. SEL1, SEL2 and TOL inputs select the exact threshold that asserts the R\S\T\ output.", 2 SEL1 (in) "Monitor Voltage Select Three-State Inputs. SEL1 and SEL2 control the nominal threshold voltage that VM is set to monitor. Connect to VCC, GND or leave unconnected in open state. (See Table 1).", 3 TOL (in) "Three-State Input for Supply Tolerance Selection (-5%, -10% or -15%). Controls the tolerance band at which the VM supply is monitored. Connect to VCC, GND, or leave unconnected in open state. (See Table 2).", 4 GND (power) "Device Ground.", 5 ~{RST} (oc) "Open Drain R\S\T\ Output. Asserts low when VM is below the threshold selected by SEL1, SEL2 and TOL input pins. Held low for an adjustable timeout after VM input is above threshold.", 6 RT (in) "Reset Timeout Control Pin. Attach an external Capacitor (CRT) to GND to set a reset timeout of 9ms/nF. Floating RT generates a reset timeout of approximately 400us. Tie RT to VCC to generate a reset timeout of approximately (See Datasheet)", 7 SEL2 (in) "Monitor Voltage Select Three-State Inputs. SEL1 and SEL2 control the nominal threshold voltage that VM is set to monitor. Connect to VCC, GND or leave unconnected in open state. (See Table 1).", 8 VCC (power) "Power Supply Input. Bypass this pin to ground with a 0.1uF ceramic capacitor. A minimum of 1.5V on VCC ensures that the part is out of under voltage lockout and that the voltage thresholds are accurate. Operates as a direct (See Datasheet)"

## LTC2915ITS8-1#TRMPBF
designator U?
Low Voltage Supervisor with 27 Selectable Thresholds, 8-pin SOT23 (TS8-8), -40 to 85 degC, Pb-Free, Mini Tape and Reel; Manufacturer: Linear Technology; PartNumber: LTC2915ITS8-1#TRMPBF; Number of Supplies(#): 1; DatasheetVersion: Rev. A; PackageVersion: Rev. A, 08/2010; PackageReference: TS8-8; PackageDescription: 8-Pin Plastic TSOT-23, Body 2.9 x 1.63 mm, Pitch 0.65 mm; Supplier 1: Digi-Key; Supplier Part Number 1: LTC2915ITS8-1#TRMPBFTR-ND; Supplier 2: Digi-Key; Supplier Part Number 2: LTC2915ITS8-1#TRMPBFCT-ND; Supplier 3: Digi-Key; Supplier Part Number 3: LTC2915ITS8-1#TRMPBFDKR-ND; Supplier 4: Newark; Supplier Part Number 4: 56M6955; Packing: Mini Tape and Reel; RoHS: TRUE; Mounting Technology: Surface Mount; Code_JEDEC: MO-193; ComponentLink1Description: Manufacturer URL; ComponentLink1URL: http://www.linear.com/; ComponentLink2Description: Datasheet; ComponentLink2URL: http://cds.linear.com/docs/en/datasheet/29156fa.pdf; ComponentLink3Description: Package Specification; ComponentLink3URL: http://cds.linear.com/docs/en/packaging/SOT_8_05-08-1637.pdf
footprint LT-TS8-8-TSOT-23_V (SOT23, 8-Leads, Body 2.9x1.75mm, Pitch 0.65mm)
pins: 1 VM (in) "Voltage Monitor Input to R\S\T\ Comparator. SEL1, SEL2 and TOL inputs select the exact threshold that asserts the R\S\T\ output.", 2 SEL1 (in) "Monitor Voltage Select Three-State Inputs. SEL1 and SEL2 control the nominal threshold voltage that VM is set to monitor. Connect to VCC, GND or leave unconnected in open state. (See Table 1).", 3 TOL (in) "Three-State Input for Supply Tolerance Selection (-5%, -10% or -15%). Controls the tolerance band at which the VM supply is monitored. Connect to VCC, GND, or leave unconnected in open state. (See Table 2).", 4 GND (power) "Device Ground.", 5 ~{RST} (oc) "Open Drain R\S\T\ Output. Asserts low when VM is below the threshold selected by SEL1, SEL2 and TOL input pins. Held low for an adjustable timeout after VM input is above threshold.", 6 RT (in) "Reset Timeout Control Pin. Attach an external Capacitor (CRT) to GND to set a reset timeout of 9ms/nF. Floating RT generates a reset timeout of approximately 400us. Tie RT to VCC to generate a reset timeout of approximately (See Datasheet)", 7 SEL2 (in) "Monitor Voltage Select Three-State Inputs. SEL1 and SEL2 control the nominal threshold voltage that VM is set to monitor. Connect to VCC, GND or leave unconnected in open state. (See Table 1).", 8 VCC (power) "Power Supply Input. Bypass this pin to ground with a 0.1uF ceramic capacitor. A minimum of 1.5V on VCC ensures that the part is out of under voltage lockout and that the voltage thresholds are accurate. Operates as a direct (See Datasheet)"